# Altium footprint library Connectors.PcbLib: 8 footprints
Each footprint in its own frame and in the unit in brackets; x right, y up, seen from the top. Pads: shape width x height; smd on the part's side, far side on the other; paste and mask are expansions set on the pad; w line width, h text height; cw(c..) or ccw(c..) is an arc to the next point about the centre after c.
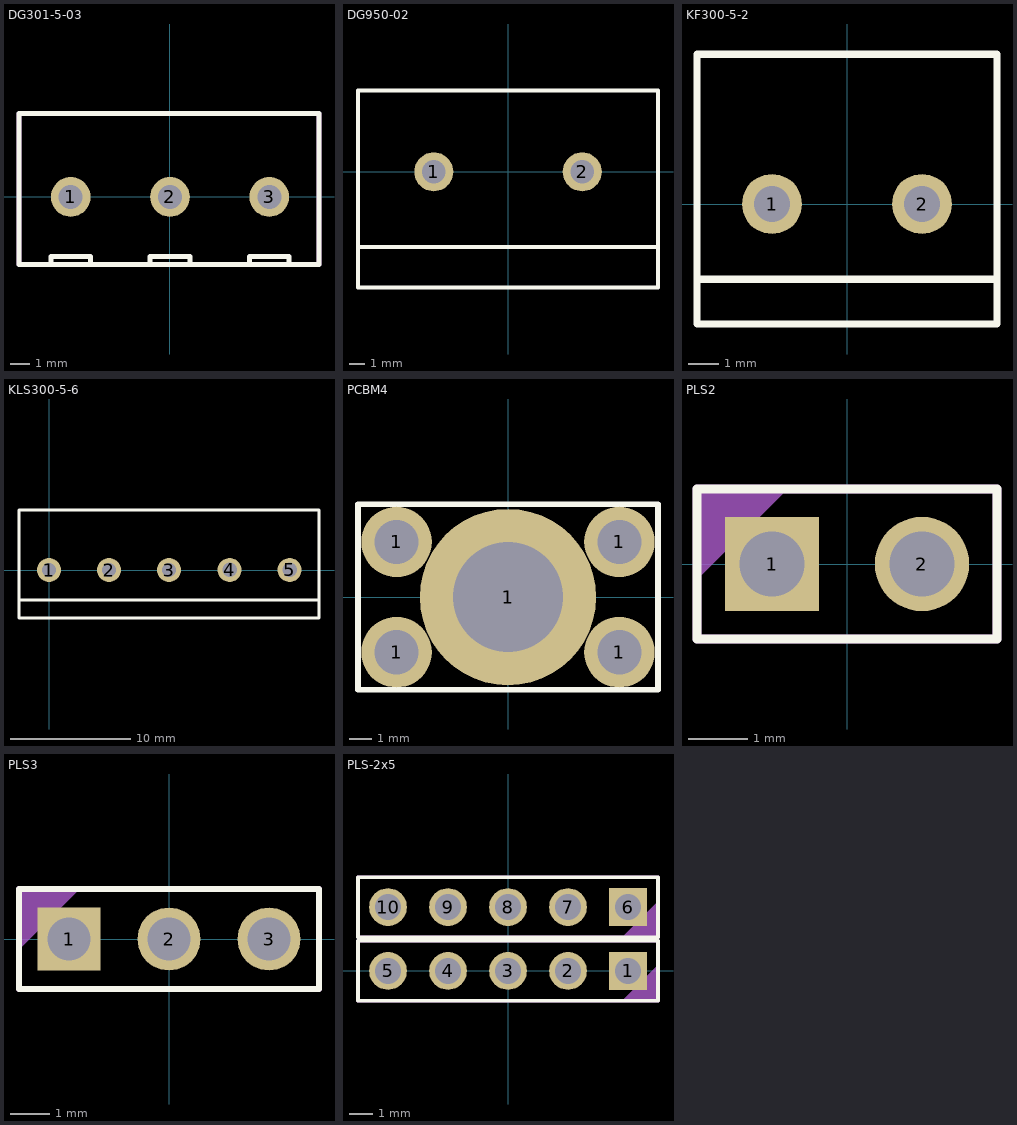
[diagram p0: the footprints below, top view; thin cyan lines are the x and y axes]

## DG301-5-03 [mm]
pads (3):
  round 2 hole 1.2: 1(-5,0) 2(0,0) 3(5,0)
Top Overlay:
  lines w0.254: -6,-3.4 -6,-3 -4,-3 -4,-3.4 ; -2.6,-3.4 7.5,-3.4 7.5,4.2 -2.6,4.2 ; 2.5,-3.4 -7.6,-3.4 -7.6,4.2 2.5,4.2 ; 4,-3.4 4,-3 6,-3 6,-3.4 ; -1,-3 1,-3 ; -1,-3 -1,-3.4 -1,-3 ; -1,-3 1,-3 ; 1,-3 1,-3.4 1,-3
Top Courtyard:
  lines w0.254: -2.6,-3.4 7.5,-3.4 7.5,4.2 -2.6,4.2 ; 2.5,-3.4 -7.6,-3.4 -7.6,4.2 2.5,4.2
3D body "User Library-DG301-5_0-3P12.STEP": height 10, standoff -4.16, extent -8.1,-3.4 7.5,4.2

## DG950-02 [mm]
pads (2):
  round 2.5 hole 1.5: 1(-4.75,0) 2(4.75,0)
Top Overlay:
  lines w0.254: -9.6,-4.8 9.6,-4.8 ; -9.6,-7.4 -9.6,5.2 9.6,5.2 9.6,-7.4 -9.6,-7.4
3D body "DG950-9.5-02P-14-00AH.STEP": height 21.5, standoff -5, extent -10.083,-7.351 9.517,5.149

## KF300-5-2 [mm]
pads (2):
  round 2 hole 1.2 unplated: 1(-2.5,0) 2(2.5,0)
Top Overlay:
  lines w0.25: -5,-2.5 5,-2.5 ; -5,-4 -2.5,-4 5,-4 5,5 2.5,5 -2.5,5 -5,5 -5,-4

## KLS300-5-6 [mm]
pads (5):
  round 2 hole 1.2 unplated: 1(0,0) 2(5,0) 3(10,0) 4(15.053,0.006) 5(20.053,0.006)
Top Overlay:
  lines w0.25: -2.5,-2.5 7.5,-2.5 22.5,-2.5 ; -2.5,-4 0,-4 7.5,-4 22.5,-4 22.5,5 7.5,5 5,5 0,5 -2.5,5 -2.5,-4

## PCBM4 [mm]
pads (5):
  round 3.2 hole 2: 1(-5.05,-2.5) 1(-5.05,2.5) 1(5.05,-2.5) 1(5.05,2.5)
  round 8 hole 5: 1(0,0)
Top Layer:
  region: -5.3,7.2
  region: -5.3,7.2
Top Overlay:
  lines w0.254: -6.8,-4.2 -6.8,4.2 5.1,4.2 6.8,4.2 6.8,-4.2 -6.8,-4.2

## PLS2 [mm]
pads (2):
  rect 1.6x1.6 hole 1.1: 1(-1.27,0)
  round 1.6 hole 1.1: 2(1.27,0)
Top Overlay:
  lines w0.15: -2.54,-1.27 -2.54,1.27 2.54,1.27 2.54,-1.27 -2.54,-1.27
Mechanical 29:
  region: -2.54,1.27 -1.016,1.27 -2.54,-0.254
  lines w0.15: -2.54,-1.27 2.54,-1.27 2.54,1.27 -2.54,1.27 -2.54,-1.27
3D body "PLS-1.STEP": height 8.5, standoff -3, extent -2.54,-1.27 0,1.27
3D body "PLS-1.STEP": height 8.5, standoff -3, extent 0,-1.27 2.54,1.27

## PLS3 [mm]
pads (3):
  rect 1.6x1.6 hole 1.1: 1(-2.54,0)
  round 1.6 hole 1.1: 2(0,0) 3(2.54,0)
Top Overlay:
  lines w0.15: -3.81,-1.27 3.81,-1.27 3.81,1.27 -3.81,1.27 -3.81,-1.27
Mechanical 29:
  region: -3.81,1.27 -2.286,1.27 -3.81,-0.254
  lines w0.15: -3.81,-1.27 -3.81,1.27 3.81,1.27 3.81,-1.27 -3.81,-1.27
3D body "PLS-1.STEP": height 8.5, standoff -3, extent 1.27,-1.27 3.81,1.27
3D body "PLS-1.STEP": height 8.5, standoff -3, extent -1.27,-1.27 1.27,1.27
3D body "PLS-1.STEP": height 8.5, standoff -3, extent -3.81,-1.27 -1.27,1.27

## PLS-2x5 [mm]
pads (10):
  rect 1.6x1.6 hole 1.1: 1(5.08,0) 6(5.08,2.7)
  round 1.6 hole 1.1: 2(2.54,0) 3(0,0) 4(-2.54,0) 5(-5.08,0) 7(2.54,2.7) 8(0,2.7) 9(-2.54,2.7) 10(-5.08,2.7)
Top Overlay:
  lines w0.15: -6.35,-1.27 -6.35,1.27 6.35,1.27 6.35,-1.27 -6.35,-1.27 ; -6.35,1.43 -6.35,3.97 6.35,3.97 6.35,1.43 -6.35,1.43
Mechanical 29:
  region: 6.35,1.43 4.826,1.43 6.35,2.954
  region: 6.35,-1.27 4.826,-1.27 6.35,0.254
  lines w0.15: -6.35,-1.27 6.35,-1.27 6.35,1.27 -6.35,1.27 -6.35,-1.27 ; -6.35,1.43 6.35,1.43 6.35,3.97 -6.35,3.97 -6.35,1.43
3D body "PLS-1.STEP": height 8.5, standoff -3, extent 3.81,1.43 6.35,3.97
3D body "PLS-1.STEP": height 8.5, standoff -3, extent 1.27,1.43 3.81,3.97
3D body "PLS-1.STEP": height 8.5, standoff -3, extent -1.27,1.43 1.27,3.97
3D body "PLS-1.STEP": height 8.5, standoff -3, extent -3.81,1.43 -1.27,3.97
3D body "PLS-1.STEP": height 8.5, standoff -3, extent -6.35,1.43 -3.81,3.97
3D body "PLS-1.STEP": height 8.5, standoff -3, extent 3.81,-1.27 6.35,1.27
3D body "PLS-1.STEP": height 8.5, standoff -3, extent 1.27,-1.27 3.81,1.27
3D body "PLS-1.STEP": height 8.5, standoff -3, extent -1.27,-1.27 1.27,1.27
3D body "PLS-1.STEP": height 8.5, standoff -3, extent -3.81,-1.27 -1.27,1.27
3D body "PLS-1.STEP": height 8.5, standoff -3, extent -6.35,-1.27 -3.81,1.27